# Altium integrated library FPGA Generic.IntLib: 1651 symbols (part 16 of 20)
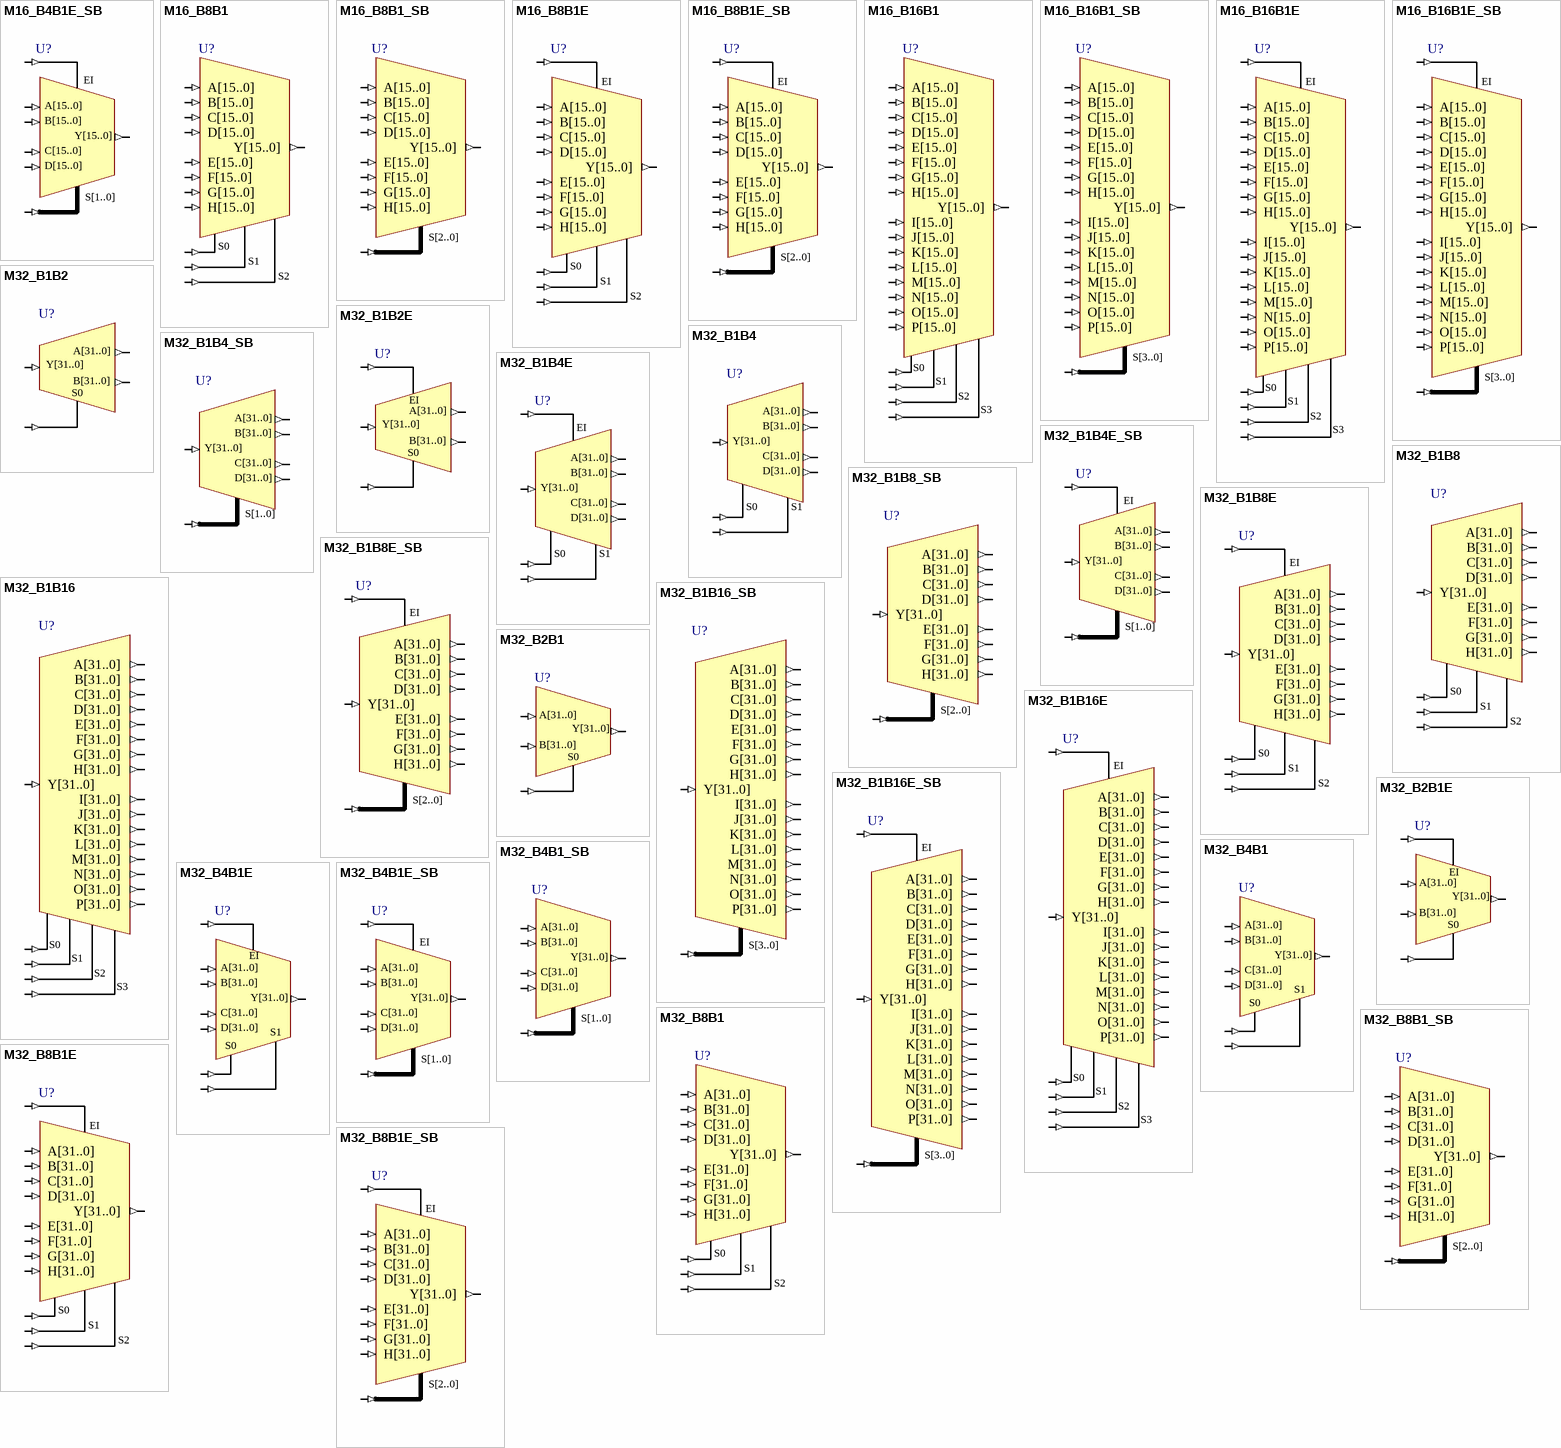
[diagram p58: symbols M16_B4B1E_SB to M32_B8B1E_SB]

## M32_B1B8E_SB
designator U?
1x32-Bit Bus to 8x32-Bit Bus Multiplexer (Demultiplex)  With Enable With Bus Version Select; SubClass: B1Bn; Enable: High; BusBusSelect: True; PortSize: 32; ArchiveName: GENERIC; VHDLIB_SIM: GENERIC_LIB; Published: 31-May-2004; Publisher: Altium Limited; LastRevisionNo: 1.00.00; HelpURL: CR0118 FPGA Generic Library Guide.pdf#page=350; ComponentLink1URL: CR0137 FPGA Multiplexer Resource Usage.pdf#page=441; ComponentLink1Description: Core &Resource Usage; FunctionalClass: Multiplexer; PortStyle: Bus Version
pins: A[31..0] (out), B[31..0] (out), C[31..0] (out), D[31..0] (out), E[31..0] (out), EI (in), F[31..0] (out), G[31..0] (out), H[31..0] (out), S[2..0] (in), Y[31..0] (in)

## M32_B1B16
designator U?
1x32-Bit Bus to 16x32-Bit Bus Multiplexer (Demultiplex); SubClass: B1Bn; PortSize: 32; PortStyle: Bus Version; ArchiveName: GENERIC; VHDLIB_SIM: GENERIC_LIB; Published: 29-Jan-2004; Publisher: Altium Limited; LastRevisionNo: 1.00.00; HelpURL: CR0118 FPGA Generic Library Guide.pdf#page=355; ComponentLink1URL: CR0137 FPGA Multiplexer Resource Usage.pdf#page=442; ComponentLink1Description: Core &Resource Usage; FunctionalClass: Multiplexer
pins: A[31..0] (out), B[31..0] (out), C[31..0] (out), D[31..0] (out), E[31..0] (out), F[31..0] (out), G[31..0] (out), H[31..0] (out), I[31..0] (out), J[31..0] (out), K[31..0] (out), L[31..0] (out), M[31..0] (out), N[31..0] (out), O[31..0] (out), P[31..0] (out), S0 (in), S1 (in), S2 (in), S3 (in), Y[31..0] (in)

## M32_B1B16_SB
designator U?
1x32-Bit Bus to 16x32-Bit Bus Multiplexer (Demultiplex) With Bus Version Select; SubClass: B1Bn; BusBusSelect: True; PortSize: 32; ArchiveName: GENERIC; VHDLIB_SIM: GENERIC_LIB; Published: 29-Jan-2004; Publisher: Altium Limited; LastRevisionNo: 1.00.00; HelpURL: CR0118 FPGA Generic Library Guide.pdf#page=355; ComponentLink1URL: CR0137 FPGA Multiplexer Resource Usage.pdf#page=443; ComponentLink1Description: Core &Resource Usage; FunctionalClass: Multiplexer; PortStyle: Bus Version
pins: A[31..0] (out), B[31..0] (out), C[31..0] (out), D[31..0] (out), E[31..0] (out), F[31..0] (out), G[31..0] (out), H[31..0] (out), I[31..0] (out), J[31..0] (out), K[31..0] (out), L[31..0] (out), M[31..0] (out), N[31..0] (out), O[31..0] (out), P[31..0] (out), S[3..0] (in), Y[31..0] (in)

## M32_B1B16E
designator U?
1x32-Bit Bus to 16x32-Bit Bus Multiplexer (Demultiplex) With Enable; SubClass: B1Bn; Enable: High; PortSize: 32; PortStyle: Bus Version; ArchiveName: GENERIC; VHDLIB_SIM: GENERIC_LIB; Published: 29-Jan-2004; Publisher: Altium Limited; LastRevisionNo: 1.00.00; HelpURL: CR0118 FPGA Generic Library Guide.pdf#page=360; ComponentLink1URL: CR0137 FPGA Multiplexer Resource Usage.pdf#page=444; ComponentLink1Description: Core &Resource Usage; FunctionalClass: Multiplexer
pins: A[31..0] (out), B[31..0] (out), C[31..0] (out), D[31..0] (out), E[31..0] (out), EI (in), F[31..0] (out), G[31..0] (out), H[31..0] (out), I[31..0] (out), J[31..0] (out), K[31..0] (out), L[31..0] (out), M[31..0] (out), N[31..0] (out), O[31..0] (out), P[31..0] (out), S0 (in), S1 (in), S2 (in), S3 (in), Y[31..0] (in)

## M32_B1B16E_SB
designator U?
1x32-Bit Bus to 16x32-Bit Bus Multiplexer (Demultiplex) With Enable and Bus Version Select; SubClass: B1Bn; Enable: High; BusBusSelect: True; PortSize: 32; ArchiveName: GENERIC; VHDLIB_SIM: GENERIC_LIB; Published: 29-Jan-2004; Publisher: Altium Limited; LastRevisionNo: 1.00.00; HelpURL: CR0118 FPGA Generic Library Guide.pdf#page=360; ComponentLink1URL: CR0137 FPGA Multiplexer Resource Usage.pdf#page=445; ComponentLink1Description: Core &Resource Usage; FunctionalClass: Multiplexer; PortStyle: Bus Version
pins: A[31..0] (out), B[31..0] (out), C[31..0] (out), D[31..0] (out), E[31..0] (out), EI (in), F[31..0] (out), G[31..0] (out), H[31..0] (out), I[31..0] (out), J[31..0] (out), K[31..0] (out), L[31..0] (out), M[31..0] (out), N[31..0] (out), O[31..0] (out), P[31..0] (out), S[3..0] (in), Y[31..0] (in)

## M32_B2B1
designator U?
2x32-Bit Bus to 1x32-Bit Bus Multiplexer; SubClass: BnB1; PortSize: 32; PortStyle: Bus Version; ArchiveName: GENERIC; VHDLIB_SIM: GENERIC_LIB; Published: 29-Jan-2004; Publisher: Altium Limited; LastRevisionNo: 1.00.00; HelpURL: CR0118 FPGA Generic Library Guide.pdf#page=364; ComponentLink1URL: CR0137 FPGA Multiplexer Resource Usage.pdf#page=446; ComponentLink1Description: Core &Resource Usage; FunctionalClass: Multiplexer
pins: A[31..0] (in), B[31..0] (in), S0 (in), Y[31..0] (out)

## M32_B2B1E
designator U?
2x32-Bit Bus to 1x32-Bit Bus Multiplexer With Enable; SubClass: BnB1; Enable: High; PortSize: 32; PortStyle: Bus Version; ArchiveName: GENERIC; VHDLIB_SIM: GENERIC_LIB; Published: 29-Jan-2004; Publisher: Altium Limited; LastRevisionNo: 1.00.00; HelpURL: CR0118 FPGA Generic Library Guide.pdf#page=366; ComponentLink1URL: CR0137 FPGA Multiplexer Resource Usage.pdf#page=447; ComponentLink1Description: Core &Resource Usage; FunctionalClass: Multiplexer
pins: A[31..0] (in), B[31..0] (in), EI (in), S0 (in), Y[31..0] (out)

## M32_B4B1
designator U?
4x32-Bit Bus to 1x32-Bit Bus Multiplexer; SubClass: BnB1; PortSize: 32; PortStyle: Bus Version; ArchiveName: GENERIC; VHDLIB_SIM: GENERIC_LIB; Published: 29-Jan-2004; Publisher: Altium Limited; LastRevisionNo: 1.00.00; HelpURL: CR0118 FPGA Generic Library Guide.pdf#page=370; ComponentLink1URL: CR0137 FPGA Multiplexer Resource Usage.pdf#page=448; ComponentLink1Description: Core &Resource Usage; FunctionalClass: Multiplexer
pins: A[31..0] (in), B[31..0] (in), C[31..0] (in), D[31..0] (in), S0 (in), S1 (in), Y[31..0] (out)

## M32_B4B1_SB
designator U?
4x32-Bit Bus to 1x32-Bit Bus Multiplexer With Bus Version Select; SubClass: BnB1; BusBusSelect: True; PortSize: 32; ArchiveName: GENERIC; VHDLIB_SIM: GENERIC_LIB; Published: 31-May-2004; Publisher: Altium Limited; LastRevisionNo: 1.00.00; HelpURL: CR0118 FPGA Generic Library Guide.pdf#page=370; ComponentLink1URL: CR0137 FPGA Multiplexer Resource Usage.pdf#page=449; ComponentLink1Description: Core &Resource Usage; FunctionalClass: Multiplexer; PortStyle: Bus Version
pins: A[31..0] (in), B[31..0] (in), C[31..0] (in), D[31..0] (in), S[1..0] (in), Y[31..0] (out)

## M32_B4B1E
designator U?
4x32-Bit Bus to 1x32-Bit Bus Multiplexer With Enable; SubClass: BnB1; Enable: High; PortSize: 32; PortStyle: Bus Version; ArchiveName: GENERIC; VHDLIB_SIM: GENERIC_LIB; Published: 29-Jan-2004; Publisher: Altium Limited; LastRevisionNo: 1.00.00; HelpURL: CR0118 FPGA Generic Library Guide.pdf#page=374; ComponentLink1URL: CR0137 FPGA Multiplexer Resource Usage.pdf#page=450; ComponentLink1Description: Core &Resource Usage; FunctionalClass: Multiplexer
pins: A[31..0] (in), B[31..0] (in), C[31..0] (in), D[31..0] (in), EI (in), S0 (in), S1 (in), Y[31..0] (out)

## M32_B4B1E_SB
designator U?
4x32-Bit Bus to 1x32-Bit Bus Multiplexer With Enable With Bus Version Select; SubClass: BnB1; Enable: High; BusBusSelect: True; PortSize: 32; ArchiveName: GENERIC; VHDLIB_SIM: GENERIC_LIB; Published: 31-May-2004; Publisher: Altium Limited; LastRevisionNo: 1.00.00; HelpURL: CR0118 FPGA Generic Library Guide.pdf#page=374; ComponentLink1URL: CR0137 FPGA Multiplexer Resource Usage.pdf#page=451; ComponentLink1Description: Core &Resource Usage; FunctionalClass: Multiplexer; PortStyle: Bus Version
pins: A[31..0] (in), B[31..0] (in), C[31..0] (in), D[31..0] (in), EI (in), S[1..0] (in), Y[31..0] (out)

## M32_B8B1
designator U?
8x32-Bit Bus to 1x32-Bit Bus Multiplexer; SubClass: BnB1; PortSize: 32; PortStyle: Bus Version; ArchiveName: GENERIC; VHDLIB_SIM: GENERIC_LIB; Published: 29-Jan-2004; Publisher: Altium Limited; LastRevisionNo: 1.00.00; HelpURL: CR0118 FPGA Generic Library Guide.pdf#page=379; ComponentLink1URL: CR0137 FPGA Multiplexer Resource Usage.pdf#page=452; ComponentLink1Description: Core &Resource Usage; FunctionalClass: Multiplexer
pins: A[31..0] (in), B[31..0] (in), C[31..0] (in), D[31..0] (in), E[31..0] (in), F[31..0] (in), G[31..0] (in), H[31..0] (in), S0 (in), S1 (in), S2 (in), Y[31..0] (out)

## M32_B8B1_SB
designator U?
8x32-Bit Bus to 1x32-Bit Bus Multiplexer With Bus Version Select; SubClass: BnB1; BusBusSelect: True; PortSize: 32; ArchiveName: GENERIC; VHDLIB_SIM: GENERIC_LIB; Published: 31-May-2004; Publisher: Altium Limited; LastRevisionNo: 1.00.00; HelpURL: CR0118 FPGA Generic Library Guide.pdf#page=379; ComponentLink1URL: CR0137 FPGA Multiplexer Resource Usage.pdf#page=453; ComponentLink1Description: Core &Resource Usage; FunctionalClass: Multiplexer; PortStyle: Bus Version
pins: A[31..0] (in), B[31..0] (in), C[31..0] (in), D[31..0] (in), E[31..0] (in), F[31..0] (in), G[31..0] (in), H[31..0] (in), S[2..0] (in), Y[31..0] (out)

## M32_B8B1E
designator U?
8x32-Bit Bus to 1x32-Bit Bus Multiplexer With Enable; SubClass: BnB1; Enable: High; PortSize: 32; PortStyle: Bus Version; ArchiveName: GENERIC; VHDLIB_SIM: GENERIC_LIB; Published: 29-Jan-2004; Publisher: Altium Limited; LastRevisionNo: 1.00.00; HelpURL: CR0118 FPGA Generic Library Guide.pdf#page=383; ComponentLink1URL: CR0137 FPGA Multiplexer Resource Usage.pdf#page=454; ComponentLink1Description: Core &Resource Usage; FunctionalClass: Multiplexer
pins: A[31..0] (in), B[31..0] (in), C[31..0] (in), D[31..0] (in), E[31..0] (in), EI (in), F[31..0] (in), G[31..0] (in), H[31..0] (in), S0 (in), S1 (in), S2 (in), Y[31..0] (out)

## M32_B8B1E_SB
designator U?
8x32-Bit Bus to 1x32-Bit Bus Multiplexer With Enable With Bus Version Select; SubClass: BnB1; Enable: High; BusBusSelect: True; PortSize: 32; ArchiveName: GENERIC; VHDLIB_SIM: GENERIC_LIB; Published: 31-May-2004; Publisher: Altium Limited; LastRevisionNo: 1.00.00; HelpURL: CR0118 FPGA Generic Library Guide.pdf#page=383; ComponentLink1URL: CR0137 FPGA Multiplexer Resource Usage.pdf#page=455; ComponentLink1Description: Core &Resource Usage; FunctionalClass: Multiplexer; PortStyle: Bus Version
pins: A[31..0] (in), B[31..0] (in), C[31..0] (in), D[31..0] (in), E[31..0] (in), EI (in), F[31..0] (in), G[31..0] (in), H[31..0] (in), S[2..0] (in), Y[31..0] (out)

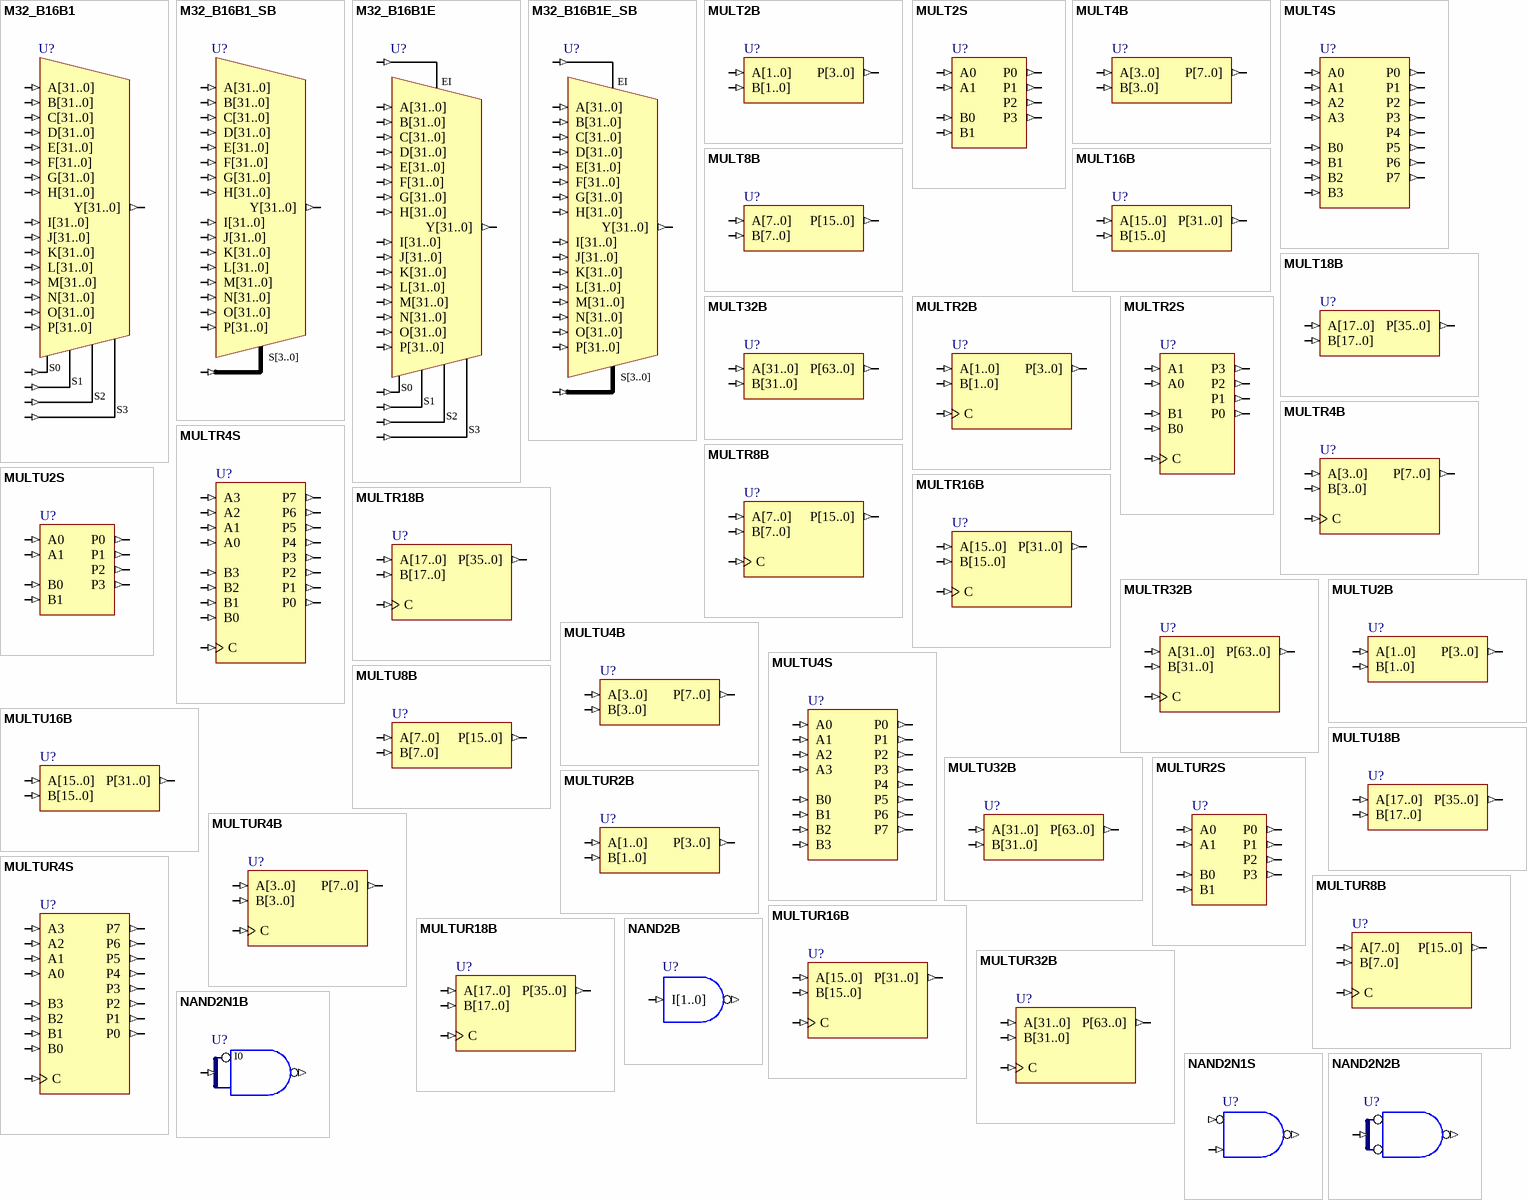
[diagram p33: symbols M32_B16B1 to NAND2N2B]

## M32_B16B1
designator U?
16x32-Bit Bus to 1x32-Bit Bus Multiplexer; SubClass: BnB1; PortSize: 32; ArchiveName: GENERIC; VHDLIB_SIM: GENERIC_LIB; Published: 29-Jan-2004; Publisher: Altium Limited; LastRevisionNo: 1.00.00; HelpURL: CR0118 FPGA Generic Library Guide.pdf#page=388; ComponentLink1URL: CR0137 FPGA Multiplexer Resource Usage.pdf#page=456; ComponentLink1Description: Core &Resource Usage; FunctionalClass: Multiplexer
pins: A[31..0] (in), B[31..0] (in), C[31..0] (in), D[31..0] (in), E[31..0] (in), F[31..0] (in), G[31..0] (in), H[31..0] (in), I[31..0] (in), J[31..0] (in), K[31..0] (in), L[31..0] (in), M[31..0] (in), N[31..0] (in), O[31..0] (in), P[31..0] (in), S0 (in), S1 (in), S2 (in), S3 (in), Y[31..0] (out)

## M32_B16B1_SB
designator U?
16x32-Bit Bus to 1x32-Bit Bus Multiplexer With Bus Version Select; SubClass: BnB1; BusBusSelect: True; PortSize: 32; ArchiveName: GENERIC; VHDLIB_SIM: GENERIC_LIB; Published: 29-Jan-2004; Publisher: Altium Limited; LastRevisionNo: 1.00.00; HelpURL: CR0118 FPGA Generic Library Guide.pdf#page=388; ComponentLink1URL: CR0137 FPGA Multiplexer Resource Usage.pdf#page=457; ComponentLink1Description: Core &Resource Usage; FunctionalClass: Multiplexer
pins: A[31..0] (in), B[31..0] (in), C[31..0] (in), D[31..0] (in), E[31..0] (in), F[31..0] (in), G[31..0] (in), H[31..0] (in), I[31..0] (in), J[31..0] (in), K[31..0] (in), L[31..0] (in), M[31..0] (in), N[31..0] (in), O[31..0] (in), P[31..0] (in), S[3..0] (in), Y[31..0] (out)

## M32_B16B1E
designator U?
16x32-Bit Bus to 1x32-Bit Bus Multiplexer With Enable; SubClass: BnB1; Enable: High; PortSize: 32; ArchiveName: GENERIC; VHDLIB_SIM: GENERIC_LIB; Published: 29-Jan-2004; Publisher: Altium Limited; LastRevisionNo: 1.00.00; HelpURL: CR0118 FPGA Generic Library Guide.pdf#page=393; ComponentLink1URL: CR0137 FPGA Multiplexer Resource Usage.pdf#page=458; ComponentLink1Description: Core &Resource Usage; FunctionalClass: Multiplexer
pins: A[31..0] (in), B[31..0] (in), C[31..0] (in), D[31..0] (in), E[31..0] (in), EI (in), F[31..0] (in), G[31..0] (in), H[31..0] (in), I[31..0] (in), J[31..0] (in), K[31..0] (in), L[31..0] (in), M[31..0] (in), N[31..0] (in), O[31..0] (in), P[31..0] (in), S0 (in), S1 (in), S2 (in), S3 (in), Y[31..0] (out)

## M32_B16B1E_SB
designator U?
16x32-Bit Bus to 1x32-Bit Bus Multiplexer With Enable and Bus Version Select; SubClass: BnB1; Enable: High; BusBusSelect: True; PortSize: 32; ArchiveName: GENERIC; VHDLIB_SIM: GENERIC_LIB; Published: 29-Jan-2004; Publisher: Altium Limited; LastRevisionNo: 1.00.00; HelpURL: CR0118 FPGA Generic Library Guide.pdf#page=393; ComponentLink1URL: CR0137 FPGA Multiplexer Resource Usage.pdf#page=459; ComponentLink1Description: Core &Resource Usage; FunctionalClass: Multiplexer; PortStyle: Bus Version
pins: A[31..0] (in), B[31..0] (in), C[31..0] (in), D[31..0] (in), E[31..0] (in), EI (in), F[31..0] (in), G[31..0] (in), H[31..0] (in), I[31..0] (in), J[31..0] (in), K[31..0] (in), L[31..0] (in), M[31..0] (in), N[31..0] (in), O[31..0] (in), P[31..0] (in), S[3..0] (in), Y[31..0] (out)

## MULT2B
designator U?
2x2 Signed Multiplier, Bus Version; FunctionalClass: Arithmetic Function; SubClass: MULT; PortSize: 2; ArchiveName: GENERIC; VHDLIB_SIM: GENERIC_LIB; Published: 31-May-2004; Publisher: Altium Limited; LastRevisionNo: 1.00.00; HelpURL: CR0118 FPGA Generic Library Guide.pdf#page=398; ComponentLink1URL: CR0124 FPGA Arithmetic Function Resource Usage.pdf#page=57; ComponentLink1Description: Core &Resource Usage; PortStyle: Bus Version
pins: A[1..0] (in), B[1..0] (in), P[3..0] (out)

## MULT2S
designator U?
2x2 Signed Multiplier, Single Pin Version; FunctionalClass: Arithmetic Function; SubClass: MULT; PortSize: 2; ArchiveName: GENERIC; VHDLIB_SIM: GENERIC_LIB; Published: 31-May-2004; Publisher: Altium Limited; LastRevisionNo: 1.00.00; HelpURL: CR0118 FPGA Generic Library Guide.pdf#page=398; ComponentLink1URL: CR0124 FPGA Arithmetic Function Resource Usage.pdf#page=58; ComponentLink1Description: Core &Resource Usage; PortStyle: Single Pin Version
pins: A0 (in), A1 (in), B0 (in), B1 (in), P0 (out), P1 (out), P2 (out), P3 (out)

## MULT4B
designator U?
4x4 Signed Multiplier, Bus Version; FunctionalClass: Arithmetic Function; SubClass: MULT; PortSize: 4; ArchiveName: GENERIC; VHDLIB_SIM: GENERIC_LIB; Published: 29-Jan-2004; Publisher: Altium Limited; LastRevisionNo: 1.00.00; HelpURL: CR0118 FPGA Generic Library Guide.pdf#page=398; ComponentLink1URL: CR0124 FPGA Arithmetic Function Resource Usage.pdf#page=59; ComponentLink1Description: Core &Resource Usage; PortStyle: Bus Version
pins: A[3..0] (in), B[3..0] (in), P[7..0] (out)

## MULT4S
designator U?
4x4 Signed Multiplier, Single Pin Version; FunctionalClass: Arithmetic Function; SubClass: MULT; PortSize: 4; ArchiveName: GENERIC; VHDLIB_SIM: GENERIC_LIB; Published: 29-Jan-2004; LatestRevisionDate: 31-May-2004; LatestRevisionNote: Pins order changed.; Publisher: Altium Limited; LastRevisionNo: 1.00.00; HelpURL: CR0118 FPGA Generic Library Guide.pdf#page=398; ComponentLink1URL: CR0124 FPGA Arithmetic Function Resource Usage.pdf#page=60; ComponentLink1Description: Core &Resource Usage; PortStyle: Single Pin Version
pins: A0 (in), A1 (in), A2 (in), A3 (in), B0 (in), B1 (in), B2 (in), B3 (in), P0 (out), P1 (out), P2 (out), P3 (out), P4 (out), P5 (out), P6 (out), P7 (out)

## MULT8B
designator U?
8x8 Signed Multiplier, Bus Version; FunctionalClass: Arithmetic Function; SubClass: MULT; PortSize: 8; ArchiveName: GENERIC; VHDLIB_SIM: GENERIC_LIB; Published: 29-Jan-2004; Publisher: Altium Limited; LastRevisionNo: 1.00.00; HelpURL: CR0118 FPGA Generic Library Guide.pdf#page=398; ComponentLink1URL: CR0124 FPGA Arithmetic Function Resource Usage.pdf#page=61; ComponentLink1Description: Core &Resource Usage; PortStyle: Bus Version
pins: A[7..0] (in), B[7..0] (in), P[15..0] (out)

## MULT16B
designator U?
16x16 Signed Multiplier, Bus Version; FunctionalClass: Arithmetic Function; SubClass: MULT; PortSize: 16; ArchiveName: GENERIC; VHDLIB_SIM: GENERIC_LIB; Published: 31-May-2004; Publisher: Altium Limited; LastRevisionNo: 1.00.00; HelpURL: CR0118 FPGA Generic Library Guide.pdf#page=398; ComponentLink1URL: CR0124 FPGA Arithmetic Function Resource Usage.pdf#page=62; ComponentLink1Description: Core &Resource Usage; PortStyle: Bus Version
pins: A[15..0] (in), B[15..0] (in), P[31..0] (out)

## MULT18B
designator U?
18x18 Signed Multiplier, Bus Version; XilinxEquivalent: MULT18x18; FunctionalClass: Arithmetic Function; SubClass: MULT; PortSize: 18; ArchiveName: GENERIC; VHDLIB_SIM: GENERIC_LIB; Published: 29-Jan-2004; Publisher: Altium Limited; LastRevisionNo: 1.00.00; HelpURL: CR0118 FPGA Generic Library Guide.pdf#page=398; ComponentLink1URL: CR0124 FPGA Arithmetic Function Resource Usage.pdf#page=63; ComponentLink1Description: Core &Resource Usage; PortStyle: Bus Version
pins: A[17..0] (in), B[17..0] (in), P[35..0] (out)

## MULT32B
designator U?
32x32 Signed Multiplier, Bus Version; FunctionalClass: Arithmetic Function; SubClass: MULT; PortSize: 32; ArchiveName: GENERIC; VHDLIB_SIM: GENERIC_LIB; Published: 31-May-2004; Publisher: Altium Limited; LastRevisionNo: 1.00.00; HelpURL: CR0118 FPGA Generic Library Guide.pdf#page=398; ComponentLink1URL: CR0124 FPGA Arithmetic Function Resource Usage.pdf#page=64; ComponentLink1Description: Core &Resource Usage; PortStyle: Bus Version
pins: A[31..0] (in), B[31..0] (in), P[63..0] (out)

## MULTR2B
designator U?
2x2 Signed Registered Multiplier, Bus Version; FunctionalClass: Arithmetic Function; SubClass: MULT; Registered: True; ClockTrigger: Rising; PortSize: 2; ArchiveName: GENERIC; VHDLIB_SIM: GENERIC_LIB; Published: 31-May-2004; Publisher: Altium Limited; LastRevisionNo: 1.00.00; HelpURL: CR0118 FPGA Generic Library Guide.pdf#page=399; ComponentLink1URL: CR0124 FPGA Arithmetic Function Resource Usage.pdf#page=65; ComponentLink1Description: Core &Resource Usage; PortStyle: Bus Version
pins: A[1..0] (in), B[1..0] (in), C (in), P[3..0] (out)

## MULTR2S
designator U?
2x2 Signed Registered Multiplier, Single Pin Version; FunctionalClass: Arithmetic Function; SubClass: MULT; Registered: True; ClockTrigger: Rising; PortSize: 2; ArchiveName: GENERIC; VHDLIB_SIM: GENERIC_LIB; Published: 31-May-2004; Publisher: Altium Limited; LastRevisionNo: 1.00.00; HelpURL: CR0118 FPGA Generic Library Guide.pdf#page=399; ComponentLink1URL: CR0124 FPGA Arithmetic Function Resource Usage.pdf#page=66; ComponentLink1Description: Core &Resource Usage; PortStyle: Single Pin Version
pins: A0 (in), A1 (in), B0 (in), B1 (in), C (in), P0 (out), P1 (out), P2 (out), P3 (out)

## MULTR4B
designator U?
4x4 Signed Registered Multiplier, Bus Version; FunctionalClass: Arithmetic Function; SubClass: MULT; Registered: True; ClockTrigger: Rising; PortSize: 4; ArchiveName: GENERIC; VHDLIB_SIM: GENERIC_LIB; Published: 31-May-2004; Publisher: Altium Limited; LastRevisionNo: 1.00.00; HelpURL: CR0118 FPGA Generic Library Guide.pdf#page=399; ComponentLink1URL: CR0124 FPGA Arithmetic Function Resource Usage.pdf#page=67; ComponentLink1Description: Core &Resource Usage; PortStyle: Bus Version
pins: A[3..0] (in), B[3..0] (in), C (in), P[7..0] (out)

## MULTR4S
designator U?
4x4 Signed Registered Multiplier, Single Pin Version; FunctionalClass: Arithmetic Function; SubClass: MULT; Registered: True; ClockTrigger: Rising; PortSize: 4; ArchiveName: GENERIC; VHDLIB_SIM: GENERIC_LIB; Published: 31-May-2004; Publisher: Altium Limited; LastRevisionNo: 1.00.00; HelpURL: CR0118 FPGA Generic Library Guide.pdf#page=399; ComponentLink1URL: CR0124 FPGA Arithmetic Function Resource Usage.pdf#page=68; ComponentLink1Description: Core &Resource Usage; PortStyle: Single Pin Version
pins: A0 (in), A1 (in), A2 (in), A3 (in), B0 (in), B1 (in), B2 (in), B3 (in), C (in), P0 (out), P1 (out), P2 (out), P3 (out), P4 (out), P5 (out), P6 (out), P7 (out)

## MULTR8B
designator U?
8x8 Signed Registered Multiplier, Bus Version; FunctionalClass: Arithmetic Function; SubClass: MULT; Registered: True; ClockTrigger: Rising; PortSize: 8; ArchiveName: GENERIC; VHDLIB_SIM: GENERIC_LIB; Published: 31-May-2004; Publisher: Altium Limited; LastRevisionNo: 1.00.00; HelpURL: CR0118 FPGA Generic Library Guide.pdf#page=399; ComponentLink1URL: CR0124 FPGA Arithmetic Function Resource Usage.pdf#page=69; ComponentLink1Description: Core &Resource Usage; PortStyle: Bus Version
pins: A[7..0] (in), B[7..0] (in), C (in), P[15..0] (out)

## MULTR16B
designator U?
16x16 Signed Registered Multiplier, Bus Version; FunctionalClass: Arithmetic Function; SubClass: MULT; Registered: True; ClockTrigger: Rising; PortSize: 16; ArchiveName: GENERIC; VHDLIB_SIM: GENERIC_LIB; Published: 31-May-2004; Publisher: Altium Limited; LastRevisionNo: 1.00.00; HelpURL: CR0118 FPGA Generic Library Guide.pdf#page=399; ComponentLink1URL: CR0124 FPGA Arithmetic Function Resource Usage.pdf#page=70; ComponentLink1Description: Core &Resource Usage; PortStyle: Bus Version
pins: A[15..0] (in), B[15..0] (in), C (in), P[31..0] (out)

## MULTR18B
designator U?
18x18 Signed Registered Multiplier, Bus Version; FunctionalClass: Arithmetic Function; SubClass: MULT; Registered: True; ClockTrigger: Rising; PortSize: 18; ArchiveName: GENERIC; VHDLIB_SIM: GENERIC_LIB; Published: 31-May-2004; Publisher: Altium Limited; LastRevisionNo: 1.00.00; HelpURL: CR0118 FPGA Generic Library Guide.pdf#page=399; ComponentLink1URL: CR0124 FPGA Arithmetic Function Resource Usage.pdf#page=71; ComponentLink1Description: Core &Resource Usage; PortStyle: Bus Version
pins: A[17..0] (in), B[17..0] (in), C (in), P[35..0] (out)

## MULTR32B
designator U?
32x32 Signed Registered Multiplier, Bus Version; FunctionalClass: Arithmetic Function; SubClass: MULT; Registered: True; ClockTrigger: Rising; PortSize: 32; ArchiveName: GENERIC; VHDLIB_SIM: GENERIC_LIB; Published: 31-May-2004; Publisher: Altium Limited; LastRevisionNo: 1.00.00; HelpURL: CR0118 FPGA Generic Library Guide.pdf#page=399; ComponentLink1URL: CR0124 FPGA Arithmetic Function Resource Usage.pdf#page=72; ComponentLink1Description: Core &Resource Usage; PortStyle: Bus Version
pins: A[31..0] (in), B[31..0] (in), C (in), P[63..0] (out)

## MULTU2B
designator U?
2x2 Unsigned Multiplier, Bus Version; FunctionalClass: Arithmetic Function; SubClass: MULTU; PortSize: 2; ArchiveName: GENERIC; VHDLIB_SIM: GENERIC_LIB; Published: 31-May-2004; Publisher: Altium Limited; LastRevisionNo: 1.00.00; HelpURL: CR0118 FPGA Generic Library Guide.pdf#page=400; ComponentLink1URL: CR0124 FPGA Arithmetic Function Resource Usage.pdf#page=73; ComponentLink1Description: Core &Resource Usage; PortStyle: Bus Version
pins: A[1..0] (in), B[1..0] (in), P[3..0] (out)

## MULTU2S
designator U?
2x2 Unsigned Multiplier, Single Pin Version; FunctionalClass: Arithmetic Function; SubClass: MULTU; PortSize: 2; ArchiveName: GENERIC; VHDLIB_SIM: GENERIC_LIB; Published: 31-May-2004; Publisher: Altium Limited; LastRevisionNo: 1.00.00; HelpURL: CR0118 FPGA Generic Library Guide.pdf#page=400; ComponentLink1URL: CR0124 FPGA Arithmetic Function Resource Usage.pdf#page=74; ComponentLink1Description: Core &Resource Usage; PortStyle: Single Pin Version
pins: A0 (in), A1 (in), B0 (in), B1 (in), P0 (out), P1 (out), P2 (out), P3 (out)

## MULTU4B
designator U?
4x4 Unsigned Multiplier, Bus Version; FunctionalClass: Arithmetic Function; SubClass: MULTU; PortSize: 4; ArchiveName: GENERIC; VHDLIB_SIM: GENERIC_LIB; Published: 29-Jan-2004; Publisher: Altium Limited; LastRevisionNo: 1.00.00; HelpURL: CR0118 FPGA Generic Library Guide.pdf#page=400; ComponentLink1URL: CR0124 FPGA Arithmetic Function Resource Usage.pdf#page=75; ComponentLink1Description: Core &Resource Usage; PortStyle: Bus Version
pins: A[3..0] (in), B[3..0] (in), P[7..0] (out)

## MULTU4S
designator U?
4x4 Unsigned Multiplier, Single Pin Version; FunctionalClass: Arithmetic Function; SubClass: MULTU; PortSize: 4; ArchiveName: GENERIC; VHDLIB_SIM: GENERIC_LIB; Published: 29-Jan-2004; LatestRevisionDate: 31-May-2004; LatestRevisionNote: Pins order changed.; Publisher: Altium Limited; LastRevisionNo: 1.00.00; HelpURL: CR0118 FPGA Generic Library Guide.pdf#page=400; ComponentLink1URL: CR0124 FPGA Arithmetic Function Resource Usage.pdf#page=76; ComponentLink1Description: Core &Resource Usage; PortStyle: Single Pin Version
pins: A0 (in), A1 (in), A2 (in), A3 (in), B0 (in), B1 (in), B2 (in), B3 (in), P0 (out), P1 (out), P2 (out), P3 (out), P4 (out), P5 (out), P6 (out), P7 (out)

## MULTU8B
designator U?
8x8 Unsigned Multiplier, Bus Version; FunctionalClass: Arithmetic Function; SubClass: MULTU; PortSize: 8; ArchiveName: GENERIC; VHDLIB_SIM: GENERIC_LIB; Published: 29-Jan-2004; Publisher: Altium Limited; LastRevisionNo: 1.00.00; HelpURL: CR0118 FPGA Generic Library Guide.pdf#page=400; ComponentLink1URL: CR0124 FPGA Arithmetic Function Resource Usage.pdf#page=77; ComponentLink1Description: Core &Resource Usage; PortStyle: Bus Version
pins: A[7..0] (in), B[7..0] (in), P[15..0] (out)

## MULTU16B
designator U?
16x16 Unsigned Multiplier, Bus Version; FunctionalClass: Arithmetic Function; SubClass: MULTU; PortSize: 16; ArchiveName: GENERIC; VHDLIB_SIM: GENERIC_LIB; Published: 31-May-2004; Publisher: Altium Limited; LastRevisionNo: 1.00.00; HelpURL: CR0118 FPGA Generic Library Guide.pdf#page=400; ComponentLink1URL: CR0124 FPGA Arithmetic Function Resource Usage.pdf#page=78; ComponentLink1Description: Core &Resource Usage; PortStyle: Bus Version
pins: A[15..0] (in), B[15..0] (in), P[31..0] (out)

## MULTU18B
designator U?
18x18 Unsigned Multiplier, Bus Version; FunctionalClass: Arithmetic Function; SubClass: MULTU; PortSize: 18; ArchiveName: GENERIC; VHDLIB_SIM: GENERIC_LIB; Published: 29-Jan-2004; Publisher: Altium Limited; LastRevisionNo: 1.00.00; HelpURL: CR0118 FPGA Generic Library Guide.pdf#page=400; ComponentLink1URL: CR0124 FPGA Arithmetic Function Resource Usage.pdf#page=79; ComponentLink1Description: Core &Resource Usage; PortStyle: Bus Version
pins: A[17..0] (in), B[17..0] (in), P[35..0] (out)

## MULTU32B
designator U?
32x32 Unsigned Multiplier, Bus Version; FunctionalClass: Arithmetic Function; SubClass: MULTU; PortSize: 32; ArchiveName: GENERIC; VHDLIB_SIM: GENERIC_LIB; Published: 31-May-2004; Publisher: Altium Limited; LastRevisionNo: 1.00.00; HelpURL: CR0118 FPGA Generic Library Guide.pdf#page=400; ComponentLink1URL: CR0124 FPGA Arithmetic Function Resource Usage.pdf#page=80; ComponentLink1Description: Core &Resource Usage; PortStyle: Bus Version
pins: A[31..0] (in), B[31..0] (in), P[63..0] (out)

## MULTUR2B
designator U?
2x2 Unsigned Registered Multiplier, Bus Version; FunctionalClass: Arithmetic Function; SubClass: MULTU; Registered: True; ClockTrigger: Rising; PortSize: 2; ArchiveName: GENERIC; VHDLIB_SIM: GENERIC_LIB; Published: 31-May-2004; Publisher: Altium Limited; LastRevisionNo: 1.00.00; HelpURL: CR0118 FPGA Generic Library Guide.pdf#page=401; ComponentLink1URL: CR0124 FPGA Arithmetic Function Resource Usage.pdf#page=81; ComponentLink1Description: Core &Resource Usage; PortStyle: Bus Version
pins: A[1..0] (in), B[1..0] (in), P[3..0] (out)

## MULTUR2S
designator U?
2x2 Unsigned Registered Multiplier, Single Pin Version; FunctionalClass: Arithmetic Function; SubClass: MULTU; Registered: True; ClockTrigger: Rising; PortSize: 2; ArchiveName: GENERIC; VHDLIB_SIM: GENERIC_LIB; Published: 31-May-2004; Publisher: Altium Limited; LastRevisionNo: 1.00.00; HelpURL: CR0118 FPGA Generic Library Guide.pdf#page=401; ComponentLink1URL: CR0124 FPGA Arithmetic Function Resource Usage.pdf#page=82; ComponentLink1Description: Core &Resource Usage; PortStyle: Single Pin Version
pins: A0 (in), A1 (in), B0 (in), B1 (in), P0 (out), P1 (out), P2 (out), P3 (out)

## MULTUR4B
designator U?
4x4 Unsigned Registered Multiplier, Bus Version; FunctionalClass: Arithmetic Function; SubClass: MULTU; Registered: True; ClockTrigger: Rising; PortSize: 4; ArchiveName: GENERIC; VHDLIB_SIM: GENERIC_LIB; Published: 31-May-2004; Publisher: Altium Limited; LastRevisionNo: 1.00.00; HelpURL: CR0118 FPGA Generic Library Guide.pdf#page=401; ComponentLink1URL: CR0124 FPGA Arithmetic Function Resource Usage.pdf#page=83; ComponentLink1Description: Core &Resource Usage; PortStyle: Bus Version
pins: A[3..0] (in), B[3..0] (in), C (in), P[7..0] (out)

## MULTUR4S
designator U?
4x4 Unsigned Registered Multiplier, Single Pin Version; FunctionalClass: Arithmetic Function; SubClass: MULTU; Registered: True; ClockTrigger: Rising; PortSize: 4; ArchiveName: GENERIC; VHDLIB_SIM: GENERIC_LIB; Published: 31-May-2004; Publisher: Altium Limited; LastRevisionNo: 1.00.00; HelpURL: CR0118 FPGA Generic Library Guide.pdf#page=401; ComponentLink1URL: CR0124 FPGA Arithmetic Function Resource Usage.pdf#page=84; ComponentLink1Description: Core &Resource Usage; PortStyle: Single Pin Version
pins: A0 (in), A1 (in), A2 (in), A3 (in), B0 (in), B1 (in), B2 (in), B3 (in), C (in), P0 (out), P1 (out), P2 (out), P3 (out), P4 (out), P5 (out), P6 (out), P7 (out)

## MULTUR8B
designator U?
8x8 Unsigned Registered Multiplier, Bus Version; FunctionalClass: Arithmetic Function; SubClass: MULTU; Registered: True; ClockTrigger: Rising; PortSize: 8; ArchiveName: GENERIC; VHDLIB_SIM: GENERIC_LIB; Published: 31-May-2004; Publisher: Altium Limited; LastRevisionNo: 1.00.00; HelpURL: CR0118 FPGA Generic Library Guide.pdf#page=401; ComponentLink1URL: CR0124 FPGA Arithmetic Function Resource Usage.pdf#page=85; ComponentLink1Description: Core &Resource Usage; PortStyle: Bus Version
pins: A[7..0] (in), B[7..0] (in), C (in), P[15..0] (out)

## MULTUR16B
designator U?
16x16 Unsigned Registered Multiplier, Bus Version; FunctionalClass: Arithmetic Function; SubClass: MULTU; Registered: True; ClockTrigger: Rising; PortSize: 16; ArchiveName: GENERIC; VHDLIB_SIM: GENERIC_LIB; Published: 31-May-2004; Publisher: Altium Limited; LastRevisionNo: 1.00.00; HelpURL: CR0118 FPGA Generic Library Guide.pdf#page=401; ComponentLink1URL: CR0124 FPGA Arithmetic Function Resource Usage.pdf#page=86; ComponentLink1Description: Core &Resource Usage; PortStyle: Bus Version
pins: A[15..0] (in), B[15..0] (in), C (in), P[31..0] (out)

## MULTUR18B
designator U?
18x18 Unsigned Registered Multiplier, Bus Version; FunctionalClass: Arithmetic Function; SubClass: MULTU; Registered: True; ClockTrigger: Rising; PortSize: 18; ArchiveName: GENERIC; VHDLIB_SIM: GENERIC_LIB; Published: 31-May-2004; Publisher: Altium Limited; LastRevisionNo: 1.00.00; HelpURL: CR0118 FPGA Generic Library Guide.pdf#page=401; ComponentLink1URL: CR0124 FPGA Arithmetic Function Resource Usage.pdf#page=87; ComponentLink1Description: Core &Resource Usage; PortStyle: Bus Version
pins: A[17..0] (in), B[17..0] (in), C (in), P[35..0] (out)

## MULTUR32B
designator U?
32x32 Unsigned Registered Multiplier, Bus Version; FunctionalClass: Arithmetic Function; SubClass: MULTU; Registered: True; ClockTrigger: Rising; PortSize: 32; ArchiveName: GENERIC; VHDLIB_SIM: GENERIC_LIB; Published: 31-May-2004; Publisher: Altium Limited; LastRevisionNo: 1.00.00; HelpURL: CR0118 FPGA Generic Library Guide.pdf#page=401; ComponentLink1URL: CR0124 FPGA Arithmetic Function Resource Usage.pdf#page=88; ComponentLink1Description: Core &Resource Usage; PortStyle: Bus Version
pins: A[31..0] (in), B[31..0] (in), C (in), P[63..0] (out)

## NAND2B
designator U?
2-Input NAND Gate, Bus Version; FunctionalClass: Logic Primitive; PortSize: 2; ArchiveName: GENERIC; VHDLIB_SIM: GENERIC_LIB; Published: 29-Jan-2004; Publisher: Altium Limited; LastRevisionNo: 1.00.00; HelpURL: CR0118 FPGA Generic Library Guide.pdf#page=402; ComponentLink1URL: CR0136 FPGA Logic Primitive Resource Usage.pdf#page=85; ComponentLink1Description: Core &Resource Usage; SubClass: NAND; PortStyle: Bus Version
pins: I[1..0] (in), O (out)

## NAND2N1B
designator U?
2-Input NAND Gate with Active Low A Input, Bus Version; FunctionalClass: Logic Primitive; PortSize: 2; ArchiveName: GENERIC; VHDLIB_SIM: GENERIC_LIB; Published: 29-Jan-2004; Publisher: Altium Limited; LastRevisionNo: 1.00.00; HelpURL: CR0118 FPGA Generic Library Guide.pdf#page=402; ComponentLink1URL: CR0136 FPGA Logic Primitive Resource Usage.pdf#page=86; ComponentLink1Description: Core &Resource Usage; SubClass: NAND; PortStyle: Bus Version
pins: I[1..0] (in), O (out)
text: I0

## NAND2N1S
designator U?
2-Input NAND Gate with Active Low A Input, Single Pin Version; XilinxEquivalent: NAND2B1; FunctionalClass: Logic Primitive; PortSize: 2; ArchiveName: GENERIC; VHDLIB_SIM: GENERIC_LIB; Published: 29-Jan-2004; Publisher: Altium Limited; LastRevisionNo: 1.00.00; HelpURL: CR0118 FPGA Generic Library Guide.pdf#page=402; ComponentLink1URL: CR0136 FPGA Logic Primitive Resource Usage.pdf#page=87; ComponentLink1Description: Core &Resource Usage; SubClass: NAND; PortStyle: Single Pin Version
pins: I0 (in), I1 (in), O (out)

## NAND2N2B
designator U?
2-Input NAND Gate with Active Low A and B Inputs, Bus Version; FunctionalClass: Logic Primitive; PortSize: 2; ArchiveName: GENERIC; VHDLIB_SIM: GENERIC_LIB; Published: 29-Jan-2004; Publisher: Altium Limited; LastRevisionNo: 1.00.00; HelpURL: CR0118 FPGA Generic Library Guide.pdf#page=402; ComponentLink1URL: CR0136 FPGA Logic Primitive Resource Usage.pdf#page=88; ComponentLink1Description: Core &Resource Usage; SubClass: NAND; PortStyle: Bus Version
pins: I[1..0] (in), O (out)

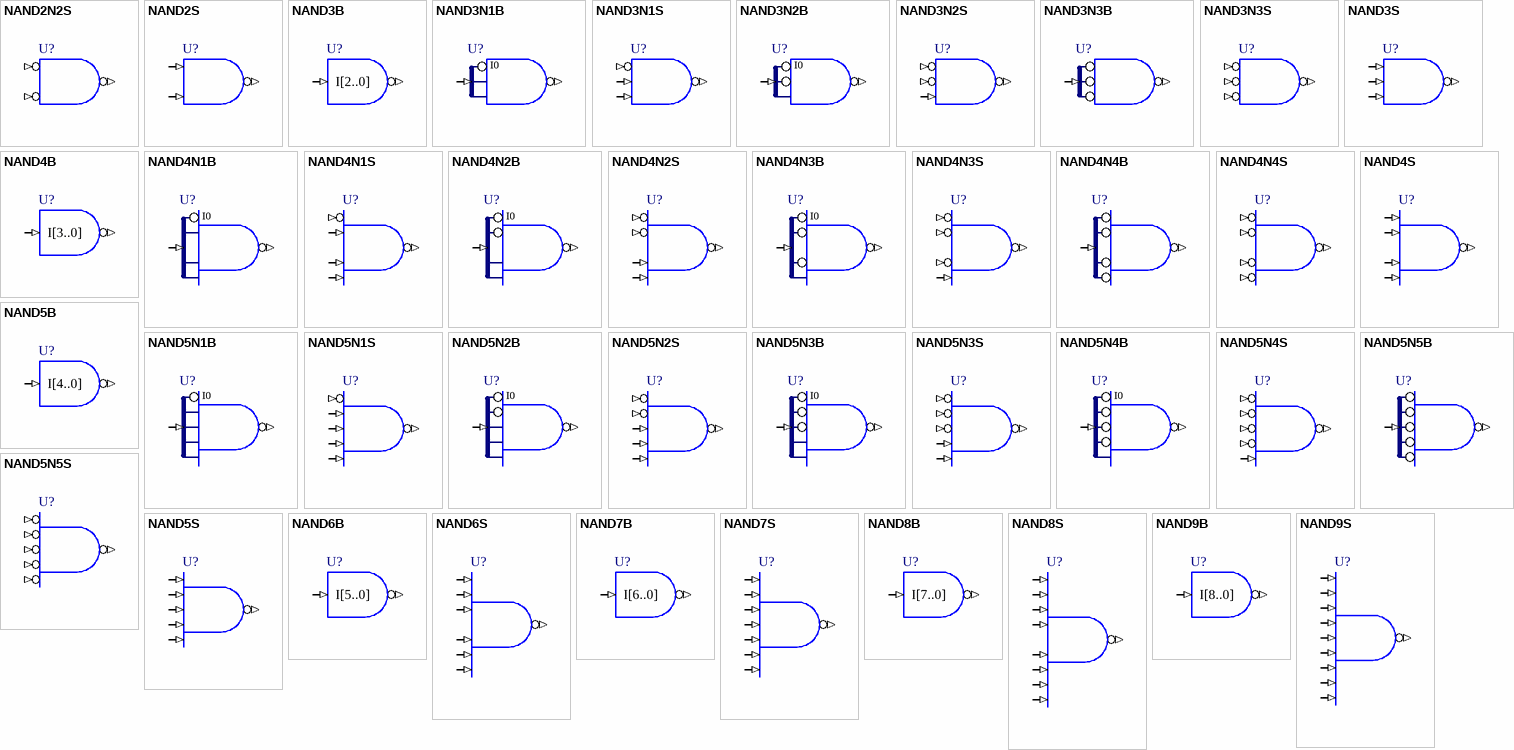
[diagram p34: symbols NAND2N2S to NAND9S]

## NAND2N2S
designator U?
2-Input NAND Gate with Active Low A and B Inputs, Single Pin Version; XilinxEquivalent: NAND2B2; FunctionalClass: Logic Primitive; PortSize: 2; ArchiveName: GENERIC; VHDLIB_SIM: GENERIC_LIB; Published: 29-Jan-2004; Publisher: Altium Limited; LastRevisionNo: 1.00.00; HelpURL: CR0118 FPGA Generic Library Guide.pdf#page=402; ComponentLink1URL: CR0136 FPGA Logic Primitive Resource Usage.pdf#page=89; ComponentLink1Description: Core &Resource Usage; SubClass: NAND; PortStyle: Single Pin Version
pins: I0 (in), I1 (in), O (out)

## NAND2S
designator U?
2-Input NAND Gate, Single Pin Version; XilinxEquivalent: NAND2; FunctionalClass: Logic Primitive; PortSize: 2; ArchiveName: GENERIC; VHDLIB_SIM: GENERIC_LIB; Published: 29-Jan-2004; Publisher: Altium Limited; LastRevisionNo: 1.00.00; HelpURL: CR0118 FPGA Generic Library Guide.pdf#page=402; ComponentLink1URL: CR0136 FPGA Logic Primitive Resource Usage.pdf#page=90; ComponentLink1Description: Core &Resource Usage; SubClass: NAND; PortStyle: Single Pin Version
pins: I0 (in), I1 (in), O (out)

## NAND3B
designator U?
3-Input NAND Gate, Bus Version; FunctionalClass: Logic Primitive; PortSize: 3; ArchiveName: GENERIC; VHDLIB_SIM: GENERIC_LIB; Published: 29-Jan-2004; Publisher: Altium Limited; LastRevisionNo: 1.00.00; HelpURL: CR0118 FPGA Generic Library Guide.pdf#page=402; ComponentLink1URL: CR0136 FPGA Logic Primitive Resource Usage.pdf#page=91; ComponentLink1Description: Core &Resource Usage; SubClass: NAND; PortStyle: Bus Version
pins: I[2..0] (in), O (out)

## NAND3N1B
designator U?
3-Input NAND Gate with Active Low A Input, Bus Version; FunctionalClass: Logic Primitive; PortSize: 3; ArchiveName: GENERIC; VHDLIB_SIM: GENERIC_LIB; Published: 29-Jan-2004; Publisher: Altium Limited; LastRevisionNo: 1.00.00; HelpURL: CR0118 FPGA Generic Library Guide.pdf#page=402; ComponentLink1URL: CR0136 FPGA Logic Primitive Resource Usage.pdf#page=92; ComponentLink1Description: Core &Resource Usage; SubClass: NAND; PortStyle: Bus Version
pins: I[2..0] (in), O (out)
text: I0

## NAND3N1S
designator U?
3-Input NAND Gate with Active Low A Input, Single Pin Version; XilinxEquivalent: NAND3B1; FunctionalClass: Logic Primitive; PortSize: 3; ArchiveName: GENERIC; VHDLIB_SIM: GENERIC_LIB; Published: 29-Jan-2004; Publisher: Altium Limited; LastRevisionNo: 1.00.00; HelpURL: CR0118 FPGA Generic Library Guide.pdf#page=402; ComponentLink1URL: CR0136 FPGA Logic Primitive Resource Usage.pdf#page=93; ComponentLink1Description: Core &Resource Usage; SubClass: NAND; PortStyle: Single Pin Version
pins: I0 (in), I1 (in), I2 (in), O (out)

## NAND3N2B
designator U?
3-Input NAND Gate with Active Low A and B Inputs, Bus Version; FunctionalClass: Logic Primitive; PortSize: 3; ArchiveName: GENERIC; VHDLIB_SIM: GENERIC_LIB; Published: 29-Jan-2004; Publisher: Altium Limited; LastRevisionNo: 1.00.00; HelpURL: CR0118 FPGA Generic Library Guide.pdf#page=402; ComponentLink1URL: CR0136 FPGA Logic Primitive Resource Usage.pdf#page=94; ComponentLink1Description: Core &Resource Usage; SubClass: NAND; PortStyle: Bus Version
pins: I[2..0] (in), O (out)
text: I0

## NAND3N2S
designator U?
3-Input NAND Gate with Active Low A and B Inputs, Single Pin Version; XilinxEquivalent: NAND3B2; FunctionalClass: Logic Primitive; PortSize: 3; ArchiveName: GENERIC; VHDLIB_SIM: GENERIC_LIB; Published: 29-Jan-2004; Publisher: Altium Limited; LastRevisionNo: 1.00.00; HelpURL: CR0118 FPGA Generic Library Guide.pdf#page=402; ComponentLink1URL: CR0136 FPGA Logic Primitive Resource Usage.pdf#page=95; ComponentLink1Description: Core &Resource Usage; SubClass: NAND; PortStyle: Single Pin Version
pins: I0 (in), I1 (in), I2 (in), O (out)

## NAND3N3B
designator U?
3-Input NAND Gate with Active Low A, B and C Inputs, Bus Version; FunctionalClass: Logic Primitive; PortSize: 3; ArchiveName: GENERIC; VHDLIB_SIM: GENERIC_LIB; Published: 29-Jan-2004; Publisher: Altium Limited; LastRevisionNo: 1.00.00; HelpURL: CR0118 FPGA Generic Library Guide.pdf#page=402; ComponentLink1URL: CR0136 FPGA Logic Primitive Resource Usage.pdf#page=96; ComponentLink1Description: Core &Resource Usage; SubClass: NAND; PortStyle: Bus Version
pins: I[2..0] (in), O (out)

## NAND3N3S
designator U?
3-Input NAND Gate with Active Low A, B and C Inputs, Single Pin Version; XilinxEquivalent: NAND3B3; FunctionalClass: Logic Primitive; PortSize: 3; ArchiveName: GENERIC; VHDLIB_SIM: GENERIC_LIB; Published: 29-Jan-2004; Publisher: Altium Limited; LastRevisionNo: 1.00.00; HelpURL: CR0118 FPGA Generic Library Guide.pdf#page=402; ComponentLink1URL: CR0136 FPGA Logic Primitive Resource Usage.pdf#page=97; ComponentLink1Description: Core &Resource Usage; SubClass: NAND; PortStyle: Single Pin Version
pins: I0 (in), I1 (in), I2 (in), O (out)

## NAND3S
designator U?
3-Input NAND Gate, Single Pin Version; XilinxEquivalent: NAND3; FunctionalClass: Logic Primitive; PortSize: 3; ArchiveName: GENERIC; VHDLIB_SIM: GENERIC_LIB; Published: 29-Jan-2004; Publisher: Altium Limited; LastRevisionNo: 1.00.00; HelpURL: CR0118 FPGA Generic Library Guide.pdf#page=402; ComponentLink1URL: CR0136 FPGA Logic Primitive Resource Usage.pdf#page=98; ComponentLink1Description: Core &Resource Usage; SubClass: NAND; PortStyle: Single Pin Version
pins: I0 (in), I1 (in), I2 (in), O (out)

## NAND4B
designator U?
4-Input NAND Gate, Bus Version; FunctionalClass: Logic Primitive; PortSize: 4; ArchiveName: GENERIC; VHDLIB_SIM: GENERIC_LIB; Published: 29-Jan-2004; Publisher: Altium Limited; LastRevisionNo: 1.00.00; HelpURL: CR0118 FPGA Generic Library Guide.pdf#page=402; ComponentLink1URL: CR0136 FPGA Logic Primitive Resource Usage.pdf#page=99; ComponentLink1Description: Core &Resource Usage; SubClass: NAND; PortStyle: Bus Version
pins: I[3..0] (in), O (out)

## NAND4N1B
designator U?
4-Input NAND Gate with Active Low A Input, Bus Version; FunctionalClass: Logic Primitive; PortSize: 4; ArchiveName: GENERIC; VHDLIB_SIM: GENERIC_LIB; Published: 29-Jan-2004; Publisher: Altium Limited; LastRevisionNo: 1.00.00; HelpURL: CR0118 FPGA Generic Library Guide.pdf#page=402; ComponentLink1URL: CR0136 FPGA Logic Primitive Resource Usage.pdf#page=100; ComponentLink1Description: Core &Resource Usage; SubClass: NAND; PortStyle: Bus Version
pins: I[3..0] (in), O (out)
text: I0

## NAND4N1S
designator U?
4-Input NAND Gate with Active Low A Input, Single Pin Version; XilinxEquivalent: NAND4B1; FunctionalClass: Logic Primitive; PortSize: 4; ArchiveName: GENERIC; VHDLIB_SIM: GENERIC_LIB; Published: 29-Jan-2004; Publisher: Altium Limited; LastRevisionNo: 1.00.00; HelpURL: CR0118 FPGA Generic Library Guide.pdf#page=402; ComponentLink1URL: CR0136 FPGA Logic Primitive Resource Usage.pdf#page=101; ComponentLink1Description: Core &Resource Usage; SubClass: NAND; PortStyle: Single Pin Version
pins: I0 (in), I1 (in), I2 (in), I3 (in), O (out)

## NAND4N2B
designator U?
4-Input NAND Gate with Active Low A and B Inputs, Bus Version; FunctionalClass: Logic Primitive; PortSize: 4; ArchiveName: GENERIC; VHDLIB_SIM: GENERIC_LIB; Published: 29-Jan-2004; Publisher: Altium Limited; LastRevisionNo: 1.00.00; HelpURL: CR0118 FPGA Generic Library Guide.pdf#page=402; ComponentLink1URL: CR0136 FPGA Logic Primitive Resource Usage.pdf#page=102; ComponentLink1Description: Core &Resource Usage; SubClass: NAND; PortStyle: Bus Version
pins: I[3..0] (in), O (out)
text: I0

## NAND4N2S
designator U?
4-Input NAND Gate with Active Low A and B Inputs, Single Pin Version; XilinxEquivalent: NAND4B2; FunctionalClass: Logic Primitive; PortSize: 4; ArchiveName: GENERIC; VHDLIB_SIM: GENERIC_LIB; Published: 29-Jan-2004; Publisher: Altium Limited; LastRevisionNo: 1.00.00; HelpURL: CR0118 FPGA Generic Library Guide.pdf#page=402; ComponentLink1URL: CR0136 FPGA Logic Primitive Resource Usage.pdf#page=103; ComponentLink1Description: Core &Resource Usage; SubClass: NAND; PortStyle: Single Pin Version
pins: I0 (in), I1 (in), I2 (in), I3 (in), O (out)

## NAND4N3B
designator U?
4-Input NAND Gate with Active Low A, B and C Inputs, Bus Version; FunctionalClass: Logic Primitive; PortSize: 4; ArchiveName: GENERIC; VHDLIB_SIM: GENERIC_LIB; Published: 29-Jan-2004; Publisher: Altium Limited; LastRevisionNo: 1.00.00; HelpURL: CR0118 FPGA Generic Library Guide.pdf#page=402; ComponentLink1URL: CR0136 FPGA Logic Primitive Resource Usage.pdf#page=104; ComponentLink1Description: Core &Resource Usage; SubClass: NAND; PortStyle: Bus Version
pins: I[3..0] (in), O (out)
text: I0

## NAND4N3S
designator U?
4-Input NAND Gate with Active Low A, B and C Inputs, Single Pin Version; XilinxEquivalent: NAND4B3; FunctionalClass: Logic Primitive; PortSize: 4; ArchiveName: GENERIC; VHDLIB_SIM: GENERIC_LIB; Published: 29-Jan-2004; Publisher: Altium Limited; LastRevisionNo: 1.00.00; HelpURL: CR0118 FPGA Generic Library Guide.pdf#page=402; ComponentLink1URL: CR0136 FPGA Logic Primitive Resource Usage.pdf#page=105; ComponentLink1Description: Core &Resource Usage; SubClass: NAND; PortStyle: Single Pin Version
pins: I0 (in), I1 (in), I2 (in), I3 (in), O (out)

## NAND4N4B
designator U?
4-Input NAND Gate with Active Low A, B, C and D Inputs, Bus Version; FunctionalClass: Logic Primitive; PortSize: 4; ArchiveName: GENERIC; VHDLIB_SIM: GENERIC_LIB; Published: 29-Jan-2004; Publisher: Altium Limited; LastRevisionNo: 1.00.00; HelpURL: CR0118 FPGA Generic Library Guide.pdf#page=402; ComponentLink1URL: CR0136 FPGA Logic Primitive Resource Usage.pdf#page=106; ComponentLink1Description: Core &Resource Usage; SubClass: NAND; PortStyle: Bus Version
pins: I[3..0] (in), O (out)

## NAND4N4S
designator U?
4-Input NAND Gate with Active Low A, B, C and D Inputs, Single Pin Version; XilinxEquivalent: NAND4B4; FunctionalClass: Logic Primitive; PortSize: 4; ArchiveName: GENERIC; VHDLIB_SIM: GENERIC_LIB; Published: 29-Jan-2004; Publisher: Altium Limited; LastRevisionNo: 1.00.00; HelpURL: CR0118 FPGA Generic Library Guide.pdf#page=402; ComponentLink1URL: CR0136 FPGA Logic Primitive Resource Usage.pdf#page=107; ComponentLink1Description: Core &Resource Usage; SubClass: NAND; PortStyle: Single Pin Version
pins: I0 (in), I1 (in), I2 (in), I3 (in), O (out)

## NAND4S
designator U?
4-Input NAND Gate, Single Pin Version; XilinxEquivalent: NAND4; FunctionalClass: Logic Primitive; PortSize: 4; ArchiveName: GENERIC; VHDLIB_SIM: GENERIC_LIB; Published: 29-Jan-2004; Publisher: Altium Limited; LastRevisionNo: 1.00.00; HelpURL: CR0118 FPGA Generic Library Guide.pdf#page=402; ComponentLink1URL: CR0136 FPGA Logic Primitive Resource Usage.pdf#page=108; ComponentLink1Description: Core &Resource Usage; SubClass: NAND; PortStyle: Single Pin Version
pins: I0 (in), I1 (in), I2 (in), I3 (in), O (out)

## NAND5B
designator U?
5-Input NAND Gate, Bus Version; FunctionalClass: Logic Primitive; PortSize: 5; ArchiveName: GENERIC; VHDLIB_SIM: GENERIC_LIB; Published: 29-Jan-2004; Publisher: Altium Limited; LastRevisionNo: 1.00.00; HelpURL: CR0118 FPGA Generic Library Guide.pdf#page=402; ComponentLink1URL: CR0136 FPGA Logic Primitive Resource Usage.pdf#page=109; ComponentLink1Description: Core &Resource Usage; SubClass: NAND; PortStyle: Bus Version
pins: I[4..0] (in), O (out)

## NAND5N1B
designator U?
5-Input NAND Gate with Active Low A Input, Bus Version; FunctionalClass: Logic Primitive; PortSize: 5; ArchiveName: GENERIC; VHDLIB_SIM: GENERIC_LIB; Published: 29-Jan-2004; Publisher: Altium Limited; LastRevisionNo: 1.00.00; HelpURL: CR0118 FPGA Generic Library Guide.pdf#page=402; ComponentLink1URL: CR0136 FPGA Logic Primitive Resource Usage.pdf#page=110; ComponentLink1Description: Core &Resource Usage; SubClass: NAND; PortStyle: Bus Version
pins: I[4..0] (in), O (out)
text: I0

## NAND5N1S
designator U?
5-Input NAND Gate with Active Low A Input, Single Pin Version; XilinxEquivalent: NAND5B1; FunctionalClass: Logic Primitive; PortSize: 5; ArchiveName: GENERIC; VHDLIB_SIM: GENERIC_LIB; Published: 29-Jan-2004; Publisher: Altium Limited; LastRevisionNo: 1.00.00; HelpURL: CR0118 FPGA Generic Library Guide.pdf#page=402; ComponentLink1URL: CR0136 FPGA Logic Primitive Resource Usage.pdf#page=111; ComponentLink1Description: Core &Resource Usage; SubClass: NAND; PortStyle: Single Pin Version
pins: I0 (in), I1 (in), I2 (in), I3 (in), I4 (in), O (out)

## NAND5N2B
designator U?
5-Input NAND Gate with Active Low A and B Inputs, Bus Version; FunctionalClass: Logic Primitive; PortSize: 5; ArchiveName: GENERIC; VHDLIB_SIM: GENERIC_LIB; Published: 29-Jan-2004; Publisher: Altium Limited; LastRevisionNo: 1.00.00; HelpURL: CR0118 FPGA Generic Library Guide.pdf#page=402; ComponentLink1URL: CR0136 FPGA Logic Primitive Resource Usage.pdf#page=112; ComponentLink1Description: Core &Resource Usage; SubClass: NAND; PortStyle: Bus Version
pins: I[4..0] (in), O (out)
text: I0

## NAND5N2S
designator U?
5-Input NAND Gate with Active Low A and B Inputs, Single Pin Version; XilinxEquivalent: NAND5B2; FunctionalClass: Logic Primitive; PortSize: 5; ArchiveName: GENERIC; VHDLIB_SIM: GENERIC_LIB; Published: 29-Jan-2004; Publisher: Altium Limited; LastRevisionNo: 1.00.00; HelpURL: CR0118 FPGA Generic Library Guide.pdf#page=402; ComponentLink1URL: CR0136 FPGA Logic Primitive Resource Usage.pdf#page=113; ComponentLink1Description: Core &Resource Usage; SubClass: NAND; PortStyle: Single Pin Version
pins: I0 (in), I1 (in), I2 (in), I3 (in), I4 (in), O (out)

## NAND5N3B
designator U?
5-Input NAND Gate with Active Low A, B and C Inputs, Bus Version; FunctionalClass: Logic Primitive; PortSize: 5; ArchiveName: GENERIC; VHDLIB_SIM: GENERIC_LIB; Published: 29-Jan-2004; Publisher: Altium Limited; LastRevisionNo: 1.00.00; HelpURL: CR0118 FPGA Generic Library Guide.pdf#page=402; ComponentLink1URL: CR0136 FPGA Logic Primitive Resource Usage.pdf#page=114; ComponentLink1Description: Core &Resource Usage; SubClass: NAND; PortStyle: Bus Version
pins: I[4..0] (in), O (out)
text: I0

## NAND5N3S
designator U?
5-Input NAND Gate with Active Low A, B and C Inputs, Single Pin Version; XilinxEquivalent: NAND5B3; FunctionalClass: Logic Primitive; PortSize: 5; ArchiveName: GENERIC; VHDLIB_SIM: GENERIC_LIB; Published: 29-Jan-2004; Publisher: Altium Limited; LastRevisionNo: 1.00.00; HelpURL: CR0118 FPGA Generic Library Guide.pdf#page=402; ComponentLink1URL: CR0136 FPGA Logic Primitive Resource Usage.pdf#page=115; ComponentLink1Description: Core &Resource Usage; SubClass: NAND; PortStyle: Single Pin Version
pins: I0 (in), I1 (in), I2 (in), I3 (in), I4 (in), O (out)

## NAND5N4B
designator U?
5-Input NAND Gate with Active Low A, B, C and D Inputs, Bus Version; FunctionalClass: Logic Primitive; PortSize: 5; ArchiveName: GENERIC; VHDLIB_SIM: GENERIC_LIB; Published: 29-Jan-2004; Publisher: Altium Limited; LastRevisionNo: 1.00.00; HelpURL: CR0118 FPGA Generic Library Guide.pdf#page=402; ComponentLink1URL: CR0136 FPGA Logic Primitive Resource Usage.pdf#page=116; ComponentLink1Description: Core &Resource Usage; SubClass: NAND; PortStyle: Bus Version
pins: I[4..0] (in), O (out)
text: I0

## NAND5N4S
designator U?
5-Input NAND Gate with Active Low A, B, C and D Inputs, Single Pin Version; XilinxEquivalent: NAND5B4; FunctionalClass: Logic Primitive; PortSize: 5; ArchiveName: GENERIC; VHDLIB_SIM: GENERIC_LIB; Published: 29-Jan-2004; Publisher: Altium Limited; LastRevisionNo: 1.00.00; HelpURL: CR0118 FPGA Generic Library Guide.pdf#page=402; ComponentLink1URL: CR0136 FPGA Logic Primitive Resource Usage.pdf#page=117; ComponentLink1Description: Core &Resource Usage; SubClass: NAND; PortStyle: Single Pin Version
pins: I0 (in), I1 (in), I2 (in), I3 (in), I4 (in), O (out)

## NAND5N5B
designator U?
5-Input NAND Gate with Active Low A, B, C, D and E Inputs, Bus Version; FunctionalClass: Logic Primitive; PortSize: 5; ArchiveName: GENERIC; VHDLIB_SIM: GENERIC_LIB; Published: 29-Jan-2004; Publisher: Altium Limited; LastRevisionNo: 1.00.00; HelpURL: CR0118 FPGA Generic Library Guide.pdf#page=402; ComponentLink1URL: CR0136 FPGA Logic Primitive Resource Usage.pdf#page=118; ComponentLink1Description: Core &Resource Usage; SubClass: NAND; PortStyle: Bus Version
pins: I[4..0] (in), O (out)

## NAND5N5S
designator U?
5-Input NAND Gate with Active Low A, B, C, D and E Inputs, Single Pin Version; XilinxEquivalent: NAND5B5; FunctionalClass: Logic Primitive; PortSize: 5; ArchiveName: GENERIC; VHDLIB_SIM: GENERIC_LIB; Published: 29-Jan-2004; Publisher: Altium Limited; LastRevisionNo: 1.00.00; HelpURL: CR0118 FPGA Generic Library Guide.pdf#page=402; ComponentLink1URL: CR0136 FPGA Logic Primitive Resource Usage.pdf#page=119; ComponentLink1Description: Core &Resource Usage; SubClass: NAND; PortStyle: Single Pin Version
pins: I0 (in), I1 (in), I2 (in), I3 (in), I4 (in), O (out)